# Altium footprint library Altium Example Master PCB Library End.PcbLib: 217 footprints (part 10 of 14)
Each footprint in its own frame and in the unit in brackets; x right, y up, seen from the top. Pads: shape width x height; smd on the part's side, far side on the other; paste and mask are expansions set on the pad; w line width, h text height; cw(c..) or ccw(c..) is an arc to the next point about the centre after c.
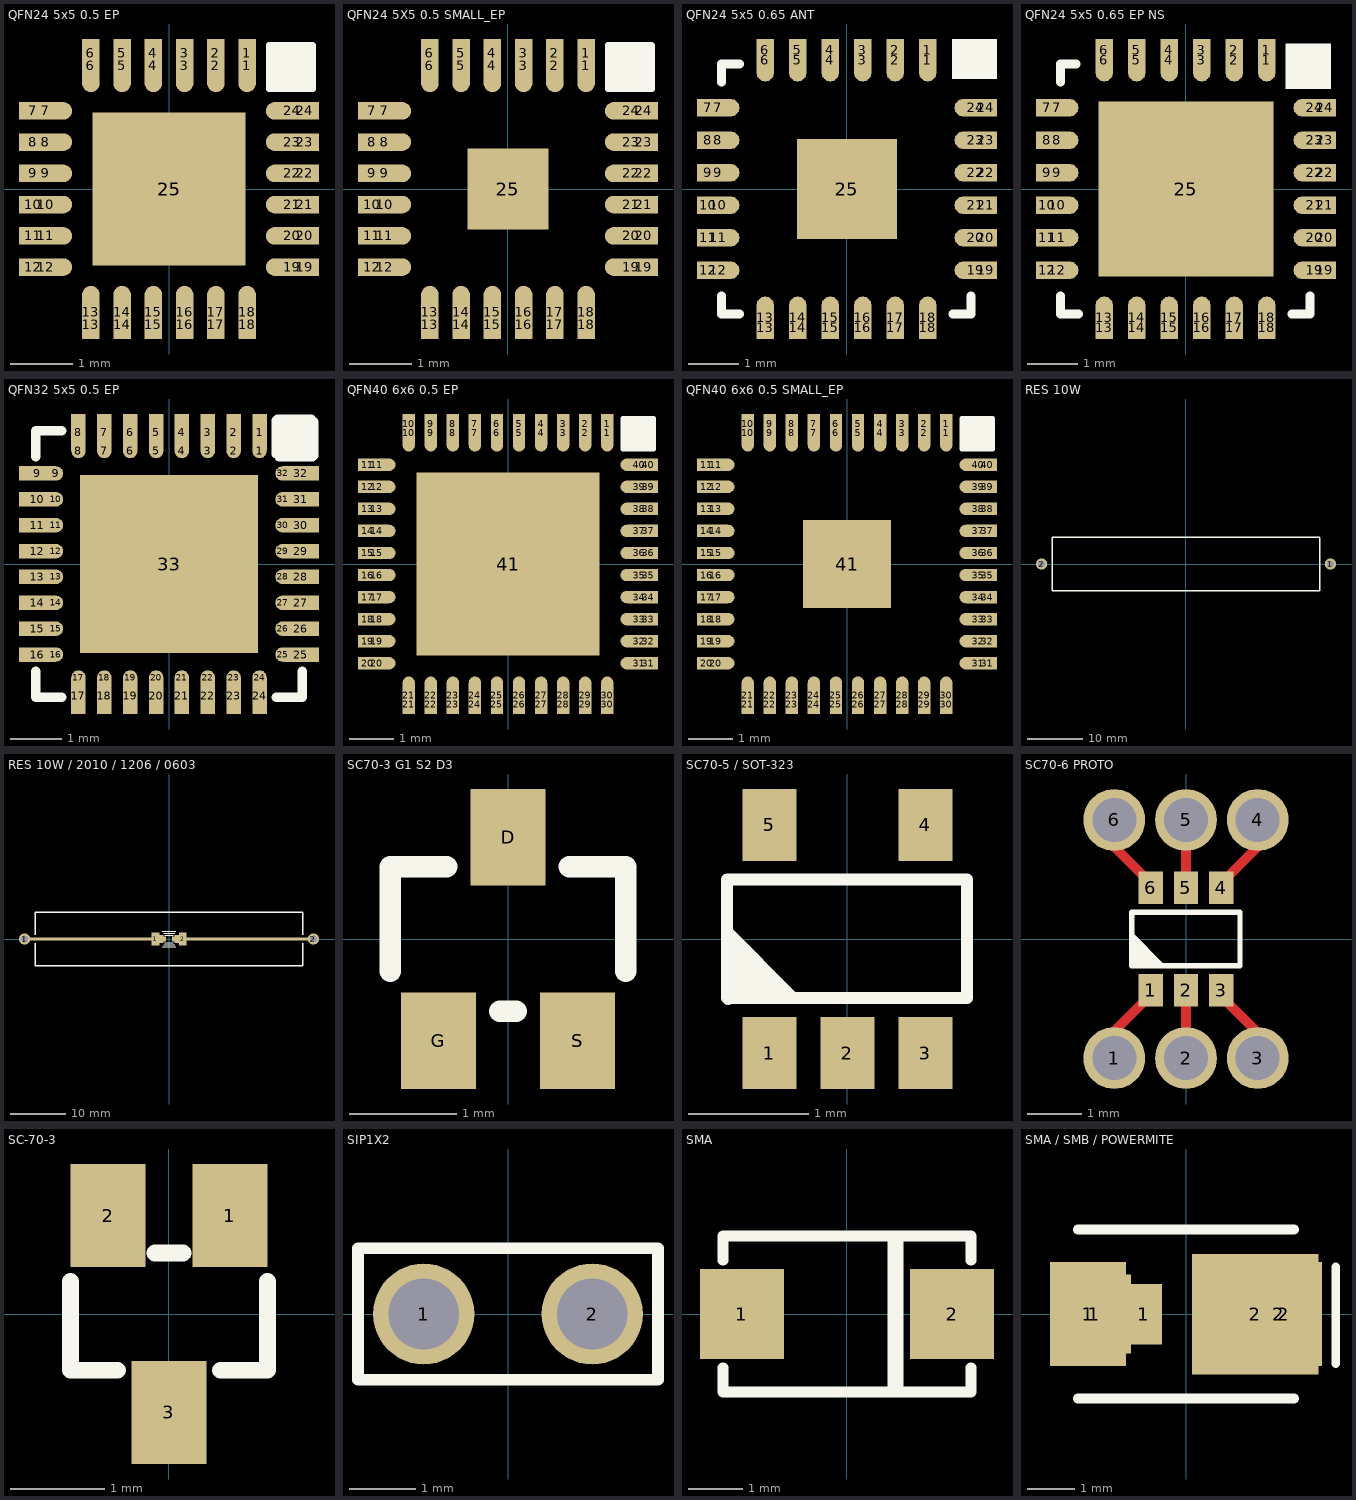
[diagram p9: the footprints below, top view; thin cyan lines are the x and y axes]

## QFN24 5x5 0.5 EP [mm]
pads (49):
  oval 0.28x0.85 smd mask+0.07: 1(1.25,1.975) 2(0.75,1.975) 3(0.25,1.975) 4(-0.25,1.975) 5(-0.75,1.975) 6(-1.25,1.975) 13(-1.25,-1.975) 14(-0.75,-1.975) 15(-0.25,-1.975) 16(0.25,-1.975) 17(0.75,-1.975) 18(1.25,-1.975)
  rect 0.28x0.45 smd mask+0.07: 1(1.25,2.175) 2(0.75,2.175) 3(0.25,2.175) 4(-0.25,2.175) 5(-0.75,2.175) 6(-1.25,2.175) 13(-1.25,-2.175) 14(-0.75,-2.175) 15(-0.25,-2.175) 16(0.25,-2.175) 17(0.75,-2.175) 18(1.25,-2.175)
  rect 0.45x0.28 smd mask+0.07: 7(-2.175,1.25) 8(-2.175,0.75) 9(-2.175,0.25) 10(-2.175,-0.25) 11(-2.175,-0.75) 12(-2.175,-1.25) 19(2.175,-1.25) 20(2.175,-0.75) 21(2.175,-0.25) 22(2.175,0.25) 23(2.175,0.75) 24(2.175,1.25)
  oval 0.85x0.28 smd mask+0.07: 7(-1.975,1.25) 8(-1.975,0.75) 9(-1.975,0.25) 10(-1.975,-0.25) 11(-1.975,-0.75) 12(-1.975,-1.25) 19(1.975,-1.25) 20(1.975,-0.75) 21(1.975,-0.25) 22(1.975,0.25) 23(1.975,0.75) 24(1.975,1.25)
  rect 2.45x2.45 smd: 25(0,0)
Top Overlay:
  rectangle: 1.6,1.6 2.3,2.3
  lines w0.1: 1.6,1.6 1.6,2.3 2.3,2.3 2.3,1.6 1.6,1.6

## QFN24 5X5 0.5 SMALL_EP [mm]
pads (49):
  oval 0.28x0.85 smd mask+0.07: 1(1.25,1.975) 2(0.75,1.975) 3(0.25,1.975) 4(-0.25,1.975) 5(-0.75,1.975) 6(-1.25,1.975) 13(-1.25,-1.975) 14(-0.75,-1.975) 15(-0.25,-1.975) 16(0.25,-1.975) 17(0.75,-1.975) 18(1.25,-1.975)
  rect 0.28x0.45 smd mask+0.07: 1(1.25,2.175) 2(0.75,2.175) 3(0.25,2.175) 4(-0.25,2.175) 5(-0.75,2.175) 6(-1.25,2.175) 13(-1.25,-2.175) 14(-0.75,-2.175) 15(-0.25,-2.175) 16(0.25,-2.175) 17(0.75,-2.175) 18(1.25,-2.175)
  rect 0.45x0.28 smd mask+0.07: 7(-2.175,1.25) 8(-2.175,0.75) 9(-2.175,0.25) 10(-2.175,-0.25) 11(-2.175,-0.75) 12(-2.175,-1.25) 19(2.175,-1.25) 20(2.175,-0.75) 21(2.175,-0.25) 22(2.175,0.25) 23(2.175,0.75) 24(2.175,1.25)
  oval 0.85x0.28 smd mask+0.07: 7(-1.975,1.25) 8(-1.975,0.75) 9(-1.975,0.25) 10(-1.975,-0.25) 11(-1.975,-0.75) 12(-1.975,-1.25) 19(1.975,-1.25) 20(1.975,-0.75) 21(1.975,-0.25) 22(1.975,0.25) 23(1.975,0.75) 24(1.975,1.25)
  rect 1.3x1.3 smd: 25(0,0)
Top Overlay:
  rectangle: 1.6,1.6 2.3,2.3
  lines w0.1: 1.6,1.6 2.3,1.6 2.3,2.3 1.6,2.3 1.6,1.6

## QFN24 5x5 0.65 ANT [mm]
pads (49):
  oval 0.35x0.85 smd: 1(1.615,2.575) 2(0.965,2.575) 3(0.315,2.575) 4(-0.335,2.575) 5(-0.985,2.575) 6(-1.635,2.575) 13(-1.635,-2.575) 14(-0.985,-2.575) 15(-0.335,-2.575) 16(0.315,-2.575) 17(0.965,-2.575) 18(1.615,-2.575)
  rect 0.35x0.45 smd: 1(1.615,2.775) 2(0.965,2.775) 3(0.315,2.775) 4(-0.335,2.775) 5(-0.985,2.775) 6(-1.635,2.775) 13(-1.635,-2.775) 14(-0.985,-2.775) 15(-0.335,-2.775) 16(0.315,-2.775) 17(0.965,-2.775) 18(1.615,-2.775)
  rect 0.45x0.35 smd: 7(-2.775,1.625) 8(-2.775,0.975) 9(-2.775,0.325) 10(-2.775,-0.325) 11(-2.775,-0.975) 12(-2.775,-1.625) 19(2.775,-1.625) 20(2.775,-0.975) 21(2.775,-0.325) 22(2.775,0.325) 23(2.775,0.975) 24(2.775,1.625)
  oval 0.85x0.35 smd: 7(-2.575,1.625) 8(-2.575,0.975) 9(-2.575,0.325) 10(-2.575,-0.325) 11(-2.575,-0.975) 12(-2.575,-1.625) 19(2.575,-1.625) 20(2.575,-0.975) 21(2.575,-0.325) 22(2.575,0.325) 23(2.575,0.975) 24(2.575,1.625)
  rect 2x2 smd paste-0.25 mask-0.2: 25(0,0)
Top Overlay:
  rectangle: 2.1,2.2 3,3
  lines w0.178: -2.51,-2.14 -2.51,-2.5 -2.15,-2.5 ; -2.51,2.14 -2.51,2.5 -2.15,2.5 ; 2.12,-2.5 2.48,-2.5 2.48,-2.14

## QFN24 5x5 0.65 EP NS [mm]
pads (49):
  oval 0.35x0.85 smd: 1(1.615,2.575) 2(0.965,2.575) 3(0.315,2.575) 4(-0.335,2.575) 5(-0.985,2.575) 6(-1.635,2.575) 13(-1.635,-2.575) 14(-0.985,-2.575) 15(-0.335,-2.575) 16(0.315,-2.575) 17(0.965,-2.575) 18(1.615,-2.575)
  rect 0.35x0.45 smd: 1(1.615,2.775) 2(0.965,2.775) 3(0.315,2.775) 4(-0.335,2.775) 5(-0.985,2.775) 6(-1.635,2.775) 13(-1.635,-2.775) 14(-0.985,-2.775) 15(-0.335,-2.775) 16(0.315,-2.775) 17(0.965,-2.775) 18(1.615,-2.775)
  rect 0.45x0.35 smd: 7(-2.775,1.625) 8(-2.775,0.975) 9(-2.775,0.325) 10(-2.775,-0.325) 11(-2.775,-0.975) 12(-2.775,-1.625) 19(2.775,-1.625) 20(2.775,-0.975) 21(2.775,-0.325) 22(2.775,0.325) 23(2.775,0.975) 24(2.775,1.625)
  oval 0.85x0.35 smd: 7(-2.575,1.625) 8(-2.575,0.975) 9(-2.575,0.325) 10(-2.575,-0.325) 11(-2.575,-0.975) 12(-2.575,-1.625) 19(2.575,-1.625) 20(2.575,-0.975) 21(2.575,-0.325) 22(2.575,0.325) 23(2.575,0.975) 24(2.575,1.625)
  rect 3.5x3.5 smd paste-0.25 mask-0.2: 25(0,0)
Top Overlay:
  rectangle: 1.99,2 2.9,2.91
  lines w0.178: -2.51,-2.14 -2.51,-2.5 -2.15,-2.5 ; -2.51,2.14 -2.51,2.5 -2.2,2.5 ; 2.12,-2.5 2.48,-2.5 2.48,-2.14

## QFN32 5x5 0.5 EP [mm]
pads (65):
  round 0.28 smd: 1(1.75,2.185) 2(1.25,2.185) 3(0.75,2.185) 4(0.25,2.185) 5(-0.25,2.185) 6(-0.75,2.185) 7(-1.25,2.185) 8(-1.75,2.185) 9(-2.185,1.75) 10(-2.185,1.25) 11(-2.185,0.75) 12(-2.185,0.25) 13(-2.185,-0.25) 14(-2.185,-0.75) 15(-2.185,-1.25) 16(-2.185,-1.75) 17(-1.75,-2.195) 18(-1.25,-2.195) 19(-0.75,-2.195) 20(-0.25,-2.195) 21(0.25,-2.195) 22(0.75,-2.195) 23(1.25,-2.195) 24(1.75,-2.195) 25(2.195,-1.75) 26(2.195,-1.25) 27(2.195,-0.75) 28(2.195,-0.25) 29(2.195,0.25) 30(2.195,0.75) 31(2.195,1.25) 32(2.195,1.75)
  rect 0.28x0.71 smd: 1(1.75,2.545) 2(1.25,2.545) 3(0.75,2.545) 4(0.25,2.545) 5(-0.25,2.545) 6(-0.75,2.545) 7(-1.25,2.545) 8(-1.75,2.545) 17(-1.75,-2.545) 18(-1.25,-2.545) 19(-0.75,-2.545) 20(-0.25,-2.545) 21(0.25,-2.545) 22(0.75,-2.545) 23(1.25,-2.545) 24(1.75,-2.545)
  rect 0.71x0.28 smd: 9(-2.545,1.75) 10(-2.545,1.25) 11(-2.545,0.75) 12(-2.545,0.25) 13(-2.545,-0.25) 14(-2.545,-0.75) 15(-2.545,-1.25) 16(-2.545,-1.75) 25(2.545,-1.75) 26(2.545,-1.25) 27(2.545,-0.75) 28(2.545,-0.25) 29(2.545,0.25) 30(2.545,0.75) 31(2.545,1.25) 32(2.545,1.75)
  rect 3.45x3.45 smd: 33(0,0)
Top Overlay:
  lines w0.178: -2.575,-2.075 -2.575,-2.575 -2.075,-2.575 ; -2.575,2.075 -2.575,2.575 -2.075,2.575 ; 2.075,-2.575 2.575,-2.575 2.575,-2.075 ; 2.075,2.125 2.075,2.575 ; 2.075,2.25 2.525,2.25 ; 2.075,2.4 2.575,2.4 ; 2.125,2.075 2.575,2.075 ; 2.2,2.7 2.65,2.7 2.65,2.075 ; 2.075,2.575 2.075,2.775 2.1,2.8 2.75,2.8 2.8,2.75 2.8,2.1 2.775,2.075 2.575,2.075 ; 2.075,2.575 2.575,2.575 2.575,2.075

## QFN40 6x6 0.5 EP [mm]
pads (81):
  oval 0.28x0.85 smd mask+0.07: 1(2.25,2.975) 2(1.75,2.975) 3(1.25,2.975) 4(0.75,2.975) 5(0.25,2.975) 6(-0.25,2.975) 7(-0.75,2.975) 8(-1.25,2.975) 9(-1.75,2.975) 10(-2.25,2.975) 21(-2.25,-2.975) 22(-1.75,-2.975) 23(-1.25,-2.975) 24(-0.75,-2.975) 25(-0.25,-2.975) 26(0.25,-2.975) 27(0.75,-2.975) 28(1.25,-2.975) 29(1.75,-2.975) 30(2.25,-2.975)
  rect 0.28x0.45 smd mask+0.07: 1(2.25,3.175) 2(1.75,3.175) 3(1.25,3.175) 4(0.75,3.175) 5(0.25,3.175) 6(-0.25,3.175) 7(-0.75,3.175) 8(-1.25,3.175) 9(-1.75,3.175) 10(-2.25,3.175) 21(-2.25,-3.175) 22(-1.75,-3.175) 23(-1.25,-3.175) 24(-0.75,-3.175) 25(-0.25,-3.175) 26(0.25,-3.175) 27(0.75,-3.175) 28(1.25,-3.175) 29(1.75,-3.175) 30(2.25,-3.175)
  rect 0.45x0.28 smd mask+0.07: 11(-3.175,2.25) 12(-3.175,1.75) 13(-3.175,1.25) 14(-3.175,0.75) 15(-3.175,0.25) 16(-3.175,-0.25) 17(-3.175,-0.75) 18(-3.175,-1.25) 19(-3.175,-1.75) 20(-3.175,-2.25) 31(3.175,-2.25) 32(3.175,-1.75) 33(3.175,-1.25) 34(3.175,-0.75) 35(3.175,-0.25) 36(3.175,0.25) 37(3.175,0.75) 38(3.175,1.25) 39(3.175,1.75) 40(3.175,2.25)
  oval 0.85x0.28 smd mask+0.07: 11(-2.975,2.25) 12(-2.975,1.75) 13(-2.975,1.25) 14(-2.975,0.75) 15(-2.975,0.25) 16(-2.975,-0.25) 17(-2.975,-0.75) 18(-2.975,-1.25) 19(-2.975,-1.75) 20(-2.975,-2.25) 31(2.975,-2.25) 32(2.975,-1.75) 33(2.975,-1.25) 34(2.975,-0.75) 35(2.975,-0.25) 36(2.975,0.25) 37(2.975,0.75) 38(2.975,1.25) 39(2.975,1.75) 40(2.975,2.25)
  rect 4.15x4.15 smd: 41(0,0)
Top Overlay:
  rectangle: 2.6,2.6 3.3,3.3
  lines w0.1: 2.6,2.6 2.6,3.3 3.3,3.3 3.3,2.6 2.6,2.6

## QFN40 6x6 0.5 SMALL_EP [mm]
pads (81):
  oval 0.28x0.85 smd mask+0.07: 1(2.25,2.975) 2(1.75,2.975) 3(1.25,2.975) 4(0.75,2.975) 5(0.25,2.975) 6(-0.25,2.975) 7(-0.75,2.975) 8(-1.25,2.975) 9(-1.75,2.975) 10(-2.25,2.975) 21(-2.25,-2.975) 22(-1.75,-2.975) 23(-1.25,-2.975) 24(-0.75,-2.975) 25(-0.25,-2.975) 26(0.25,-2.975) 27(0.75,-2.975) 28(1.25,-2.975) 29(1.75,-2.975) 30(2.25,-2.975)
  rect 0.28x0.45 smd mask+0.07: 1(2.25,3.175) 2(1.75,3.175) 3(1.25,3.175) 4(0.75,3.175) 5(0.25,3.175) 6(-0.25,3.175) 7(-0.75,3.175) 8(-1.25,3.175) 9(-1.75,3.175) 10(-2.25,3.175) 21(-2.25,-3.175) 22(-1.75,-3.175) 23(-1.25,-3.175) 24(-0.75,-3.175) 25(-0.25,-3.175) 26(0.25,-3.175) 27(0.75,-3.175) 28(1.25,-3.175) 29(1.75,-3.175) 30(2.25,-3.175)
  rect 0.45x0.28 smd mask+0.07: 11(-3.175,2.25) 12(-3.175,1.75) 13(-3.175,1.25) 14(-3.175,0.75) 15(-3.175,0.25) 16(-3.175,-0.25) 17(-3.175,-0.75) 18(-3.175,-1.25) 19(-3.175,-1.75) 20(-3.175,-2.25) 31(3.175,-2.25) 32(3.175,-1.75) 33(3.175,-1.25) 34(3.175,-0.75) 35(3.175,-0.25) 36(3.175,0.25) 37(3.175,0.75) 38(3.175,1.25) 39(3.175,1.75) 40(3.175,2.25)
  oval 0.85x0.28 smd mask+0.07: 11(-2.975,2.25) 12(-2.975,1.75) 13(-2.975,1.25) 14(-2.975,0.75) 15(-2.975,0.25) 16(-2.975,-0.25) 17(-2.975,-0.75) 18(-2.975,-1.25) 19(-2.975,-1.75) 20(-2.975,-2.25) 31(2.975,-2.25) 32(2.975,-1.75) 33(2.975,-1.25) 34(2.975,-0.75) 35(2.975,-0.25) 36(2.975,0.25) 37(2.975,0.75) 38(2.975,1.25) 39(2.975,1.75) 40(2.975,2.25)
  rect 2x2 smd: 41(0,0)
Top Overlay:
  rectangle: 2.6,2.6 3.3,3.3
  lines w0.1: 2.6,2.6 2.6,3.3 3.3,3.3 3.3,2.6 2.6,2.6

## RES 10W [mil]
height 400
pads (2):
  round 80 hole 50: 1(1025,0) 2(-1025,0)
Top Overlay:
  lines w10: 950,184.88 950,-190 -950,-190 -950,190 950,190

## RES 10W / 2010 / 1206 / 0603 [mm]
pads (10):
  round 2.032 hole 1.27: 1(-26.035,0) 2(26.035,0)
  rect 22.86x0.508 smd: 1(-14.353,0) 2(14.4,0)
  rect 1.4x2.3 smd: 1(-2.44,-0.003) 2(2.461,-0.003)
  rect 1x1.524 smd: 1(-1.489,-0.003) 2(1.51,-0.003)
  rect 0.6x0.9 smd: 1(-0.8,0) 2(0.8,0)
Top Overlay:
  lines w0.2: -0.99,-1.003 1.011,-1.003 ; -0.99,0.997 1.011,0.997 ; -0.8,-0.7 0.8,-0.7 ; -0.8,0.7 0.8,0.7
  lines w0.203: -1.189,-1.403 1.21,-1.403 ; -1.189,1.397 1.21,1.397
  lines w0.254: -24.13,-0.73 -24.13,-4.826 24.13,-4.826 24.13,-0.73 ; -24.13,0.73 -24.13,4.826 24.13,4.826 24.13,0.73

## SC70-3 G1 S2 D3 [mm]
pads (3):
  rect 0.7x0.9 smd: D(0,0.95) G(-0.65,-0.95) S(0.65,-0.95)
Top Overlay:
  lines w0.203: -1.1,-0.3 -1.1,0.675 -0.575,0.675 ; -0.075,-0.675 0.075,-0.675 ; 0.575,0.675 1.1,0.675 1.1,-0.3

## SC70-5 / SOT-323 [mm]
pads (5):
  rect 0.45x0.6 smd: 1(-0.65,-0.95) 2(0,-0.95) 3(0.65,-0.95) 4(0.65,0.95) 5(-0.65,0.95)
Top Overlay:
  region: -1.003,0.129 -0.395,-0.483 -1.003,-0.473
  lines w0.1: -1,-0.493 -0.993,-0.5 ; -1.002,-0.491 0.998,-0.491 0.998,0.497 -1.002,0.497 -1.002,-0.491

## SC70-6 PROTO [mm]
pads (12):
  round 1.143 hole 0.813: 1(-1.325,-2.2) 2(0,-2.2) 3(1.325,-2.2) 4(1.325,2.2) 5(0,2.2) 6(-1.325,2.2)
  rect 0.45x0.6 smd paste-2.54: 1(-0.65,-0.95) 2(0,-0.95) 3(0.65,-0.95) 4(0.65,0.95) 5(0,0.95) 6(-0.65,0.95)
Top Layer:
  lines w0.178: -1.325,-2.2 -1.325,-1.7 -0.65,-1.025 -0.65,-0.95 ; -1.325,2.2 -1.325,1.7 -0.65,1.025 -0.65,0.95 ; 0,-2.2 0,-0.95 ; 0,0.95 0,2.2 ; 0.65,-0.95 0.65,-1.05 1.325,-1.725 1.325,-2.2 ; 0.65,0.95 0.65,1.025 1.325,1.7 1.325,2.2
Top Overlay:
  region: -1.003,0.129 -0.395,-0.483 -1.003,-0.473
  lines w0.1: -1.002,-0.491 -1.002,0.497 0.998,0.497 0.998,-0.491 -1.002,-0.491

## SC-70-3 [mm]
pads (3):
  rect 0.8x1.1 smd paste+0 mask+0: 1(0.65,1.05) 2(-0.65,1.05) 3(0,-1.05)
Top Overlay:
  lines w0.178: -1.05,0.35 -1.05,-0.6 -0.55,-0.6 ; -0.15,0.65 0.15,0.65 ; 0.55,-0.6 1.05,-0.6 1.05,0.35

## SIP1X2 [mil]
pads (2):
  round 60 hole 42: 1(-50,0) 2(50,0)
Top Overlay:
  lines w7: -89,-39 89,-39 89,39 -89,39 -89,-39

## SMA [mm]
pads (2):
  rect 1.56x1.67 smd: 1(-1.95,0) 2(1.95,0)
Top Overlay:
  lines w0.2: -2.3,-1 -2.3,-1.45 0,-1.45 2.3,-1.45 2.3,-1 ; -2.3,1 -2.3,1.45 0,1.45 2.3,1.45 2.3,1
  lines w0.3: 0.9,-1.35 0.9,1.4

## SMA / SMB / POWERMITE [mm]
pads (6):
  rect 1.6x2.2 smd: 1(-2.074,0.003) 2(2.053,0.003)
  rect 1.56x1.67 smd: 1(-1.95,0) 2(1.95,0)
  rect 0.762x1.27 smd: 1(-0.901,0)
  rect 2.67x2.54 smd: 2(1.45,0)
Top Overlay:
  lines w0.178: 3.15,-1.05 3.15,1
  lines w0.203: -2.297,-1.779 2.275,-1.779 ; -2.297,1.785 2.275,1.785